# Altium schematic symbol library Passive.SchLib: 24 symbols
Pins are listed as number, name and electrical type; pins without a type are passive.

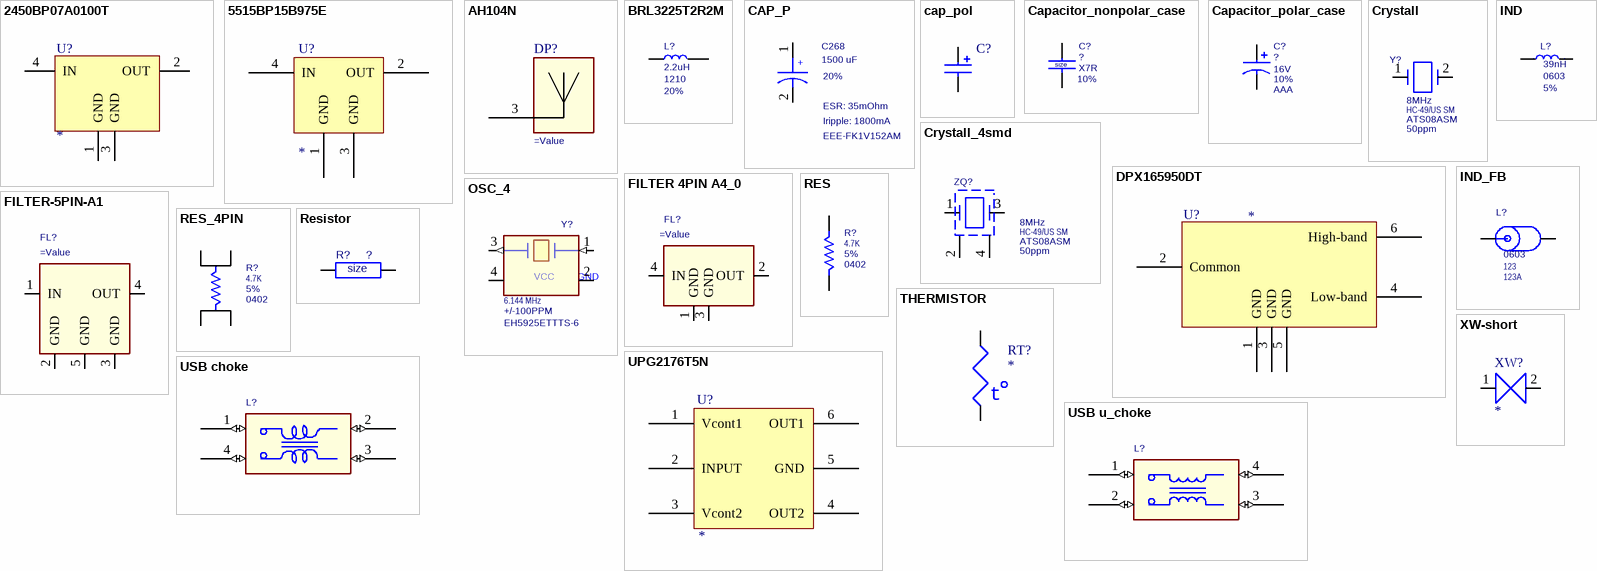
[diagram p0: symbols 2450BP07A0100T to XW-short]

## 2450BP07A0100T
designator U?
2450 MHz Band Pass Filter
pins: 1 GND, 2 OUT, 3 GND, 4 IN

## 5515BP15B975E
designator U?
pins: 1 GND, 2 OUT, 3 GND, 4 IN

## AH104N
designator DP?
ANTENNA
pins: 3 ANT

## BRL3225T2R2M
designator L?, comment Tolerance: 20%  Case: 1210  (hidden comment: 2.2uH)
FIXED IND 2.2UH 1.6A 78 MOHM SMD; Digikey ID: 587-2165-1-ND; Current: 1.6A; Value: 2.2uH
footprint RC1210 (Chip Resistor, 2-Leads, Body 3.1x2.6mm, IPC Medium Density)
pins: 1, 2

## CAP_P
designator C268, comment 1500 uF  ESR: 35mOhm  PART_NUMBER: EEE-FK1V152AM  Tolerance: 20%  Iripple: 1800mA
CAP, ALUMINUM, 1500 uF, 20%, 35V, 1717, RoHS; MANUFACTURE: Panasonic; CRITICAL: YES; CLASS: DISCRETE; JAWBONE_PN: 150-00247; ROHS: YES; Package Size: 1717; Dielectric Type: Aluminum; DIGIKEY PN: PCE4861TR-ND; RATED_VOLTAGE: 35V
footprint C1717
pins: 1, 2
text: +

## cap_pol
designator C?
Nonpolar capacitor
pins: N, P

## Capacitor_nonpolar_case
designator C?, comment Tolerance: 10%  Case: size  Temperature Coefficient: X7R  (hidden comment: ?)
Nonpolar capacitor; Value: ?
pins: 1, 2

## Capacitor_polar_case
designator C?, comment Tolerance: 10%  Voltage: 16V  Part number: AAA  (hidden comment: ?)
Nonpolar capacitor; Value: ?
pins: 1, 2

## Crystall
designator Y?, comment Tolerance: 50ppm  Case: HC-49/US SM  Part number: ATS08ASM  (hidden comment: 8MHz)
Value: 8MHz
pins: 1, 2

## Crystall_4smd
designator ZQ?, comment Tolerance: 50ppm  Case: HC-49/US SM  Part number: ATS08ASM  (hidden comment: 8MHz)
Value: 8MHz
pins: 1, 2, 3, 4

## DPX165950DT
designator U?
pins: 1 GND, 2 Common, 3 GND, 4 Low-band, 5 GND, 6 High-band

## FILTER 4PIN A4_0
designator FL?
pins: 1 GND, 2 OUT, 3 GND, 4 IN

## FILTER-5PIN-A1
designator FL?
pins: 1 IN, 2 GND, 3 GND, 4 OUT, 5 GND

## IND
designator L?, comment Tolerance: 5%  Case: 0603  (hidden comment: 39nH)
Value: 39nH
pins: 1, 2

## IND_FB
designator L?, comment Case: 0603  Part Number: 123  (hidden comment: 123A)
Current: 123A
pins: 1, 2

## OSC_4
designator Y?, comment Part number: EH5925ETTTS-6  PPM: +/-100PPM  (hidden comment: 6.144 MHz)
Value: 6.144 MHz
pins: 1 EI (in), 2 GND (power), 3 OUTPUT (out), 4 VCC (power)

## RES
designator R?, comment Case: 0402  Tolerance: 5%  (hidden comment: 4.7K)
Resistor; Value: 4.7K
pins: 1, 2

## RES_4PIN
designator R?, comment Case: 0402  Tolerance: 5%  (hidden comment: 4.7K)
Resistor  4pin; Value: 4.7K
pins: 1, 2, 3, 4

## Resistor
designator R?, comment Case: size  (hidden comment: ?)
Chip resistor; Value: ?
pins: 1, 2

## THERMISTOR
designator RT?
pins: 1, 2
text: t

## UPG2176T5N
designator U?
50  TERMINATION TYPE HIGH POWER SPDT SWITCH FOR WiMAX
pins: 1 Vcont1, 2 INPUT, 3 Vcont2, 4 OUT2, 5 GND, 6 OUT1

## USB choke
designator L?
pins: 1 (io), 2 (io), 3 (io), 4 (io)

## USB u_choke
designator L?
pins: 1 (io), 2 (io), 3 (io), 4 (io)

## XW-short
designator XW?
pins: 1, 2